# Altium schematic symbol library BD33C0AFP-CE2.SchLib: 2 symbols
Pins are listed as number, name and electrical type; pins without a type are passive.

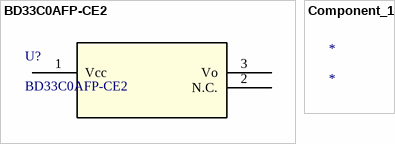
[diagram p0: symbols BD33C0AFP-CE2 to Component_1]

## BD33C0AFP-CE2
designator U?
No Description Available; Mfr_Name: ROHM Semiconductor; Copyright: Copyright (C) 2022 Ultra Librarian. All rights reserved.; Manufacturer_Part_Number: BD33C0AFP-CE2; RefDes: RefDes; Type: DEV
footprint TO252-3_ROM
pins: 1 Vcc (power), 2 N.C., 3 Vo

## Component_1
designator *